# Altium footprint library R82EC1470DQ50K.PcbLib: 1 footprints
Each footprint in its own frame and in the unit in brackets; x right, y up, seen from the top. Pads: shape width x height; smd on the part's side, far side on the other; paste and mask are expansions set on the pad; w line width, h text height; cw(c..) or ccw(c..) is an arc to the next point about the centre after c.
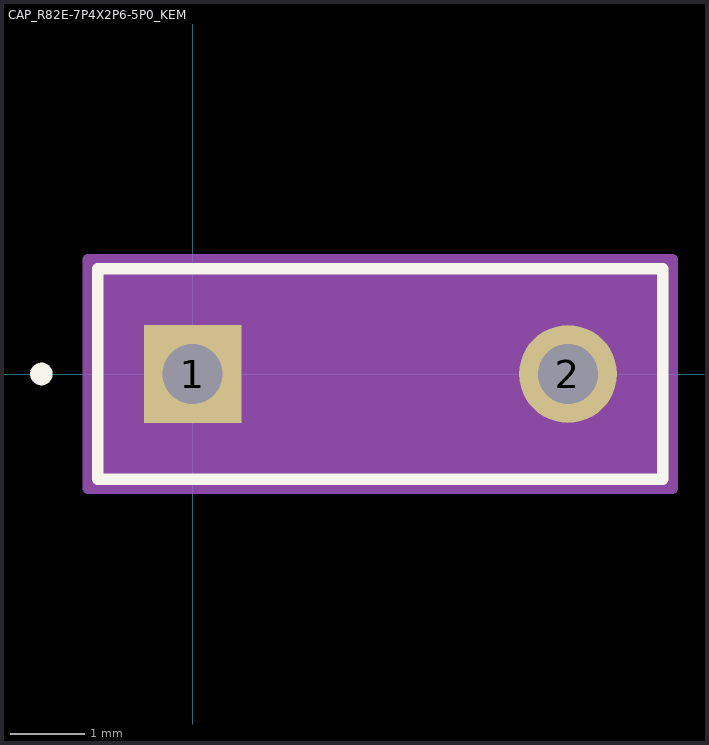
[diagram p0: the footprint, top view; thin cyan lines are the x and y axes]

## CAP_R82E-7P4X2P6-5P0_KEM [mil]
pads (2):
  rect 52x52 / inner round 60 / far side rect 52x52 hole 32 paste-26 mask+0: 1(0,0)
  round 52 / inner round 60 / far side round 52 hole 32 paste-26 mask+0: 2(200,0)
Top Overlay:
  circle w6: c-80.5,0 r3
  lines w6: -50.5,-56 250.5,-56 250.5,56 -50.5,56 -50.5,-56
Mechanical 13:
  circle w0: c-25.5,0 r3
  lines w1: -45.5,-51 245.5,-51 245.5,51 -45.5,51 -45.5,-51
Mechanical 15:
  region: 255.5,-61 -55.5,-61 -55.5,61 255.5,61
  lines w6: -55.5,-61 -55.5,61 255.5,61 255.5,-61 -55.5,-61
3D body "CAP_R82E-7P4X2P6-5P0_KEM.step": height 260, standoff -165.98, extent -45.51,-50.98 245.51,50.98